# EAGLE library part SC189 (library SparkFun-DigitalIC)
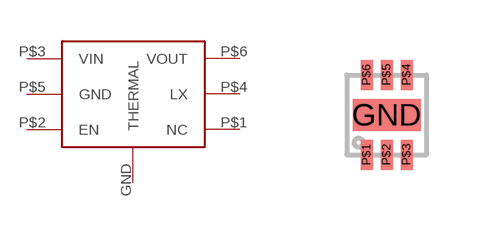
[diagram p119: symbol with the pads of MLPD-UT6; footprint MLPD-UT6]

Designator prefix -

## SC189  [MLPD-UT6]
GND  THERMAL  pwr
P$1  NC  nc
P$2  EN  in
P$3  VIN  pwr
P$4  LX  pas
P$5  GND  pwr
P$6  VOUT  out

## Footprint MLPD-UT6 (pad centres in mm)
Semtech SC189 buck converter in MLPD-UT6 package
smd 1.7 x 0.8: GND 0,0
smd 0.3 x 0.75: P$1 -0.5,-1; P$2 0,-1; P$3 0.5,-1; P$4 0.5,1; P$5 0,1; P$6 -0.5,1